# Altium footprint library PCB - LEADED - SOP - TI TSSOP-24 PW024A.PcbLib: 1 footprints
Each footprint in its own frame and in the unit in brackets; x right, y up, seen from the top. Pads: shape width x height; smd on the part's side, far side on the other; paste and mask are expansions set on the pad; w line width, h text height; cw(c..) or ccw(c..) is an arc to the next point about the centre after c.
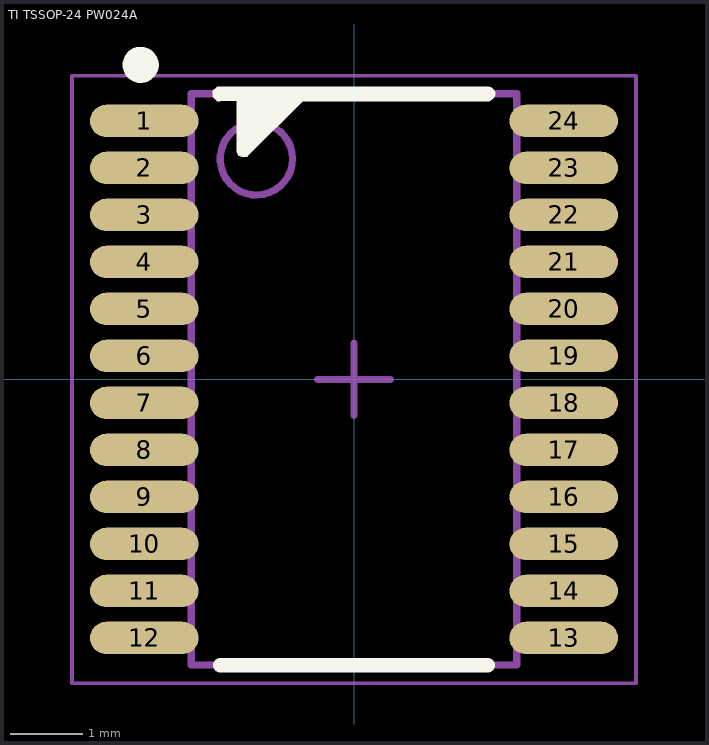
[diagram p0: the footprint, top view; thin cyan lines are the x and y axes]

## TI TSSOP-24 PW024A [mm] "TSOP, 24-Leads, Body 7.80x4.40mm, Pitch 0.65mm, IPC Medium Density"
height 1.2
pads (24):
  oval 1.5x0.45 smd: 1(-2.9,3.575) 2(-2.9,2.925) 3(-2.9,2.275) 4(-2.9,1.625) 5(-2.9,0.975) 6(-2.9,0.325) 7(-2.9,-0.325) 8(-2.9,-0.975) 9(-2.9,-1.625) 10(-2.9,-2.275) 11(-2.9,-2.925) 12(-2.9,-3.575) 13(2.9,-3.575) 14(2.9,-2.925) 15(2.9,-2.275) 16(2.9,-1.625) 17(2.9,-0.975) 18(2.9,-0.325) 19(2.9,0.325) 20(2.9,0.975) 21(2.9,1.625) 22(2.9,2.275) 23(2.9,2.925) 24(2.9,3.575)
Top Overlay:
  circle w0.25: c-2.95,4.35 r0.125
  region: -1.85,3.85 -1.624,3.85 -1.624,3.175 -1.624,3.145 -1.591,3.094 -1.534,3.071 -1.475,3.082 -1.453,3.104 -0.707,3.85 1.85,3.85 1.87,3.85 1.907,3.865 1.935,3.893 1.95,3.93 1.95,3.95 1.95,3.97 1.935,4.007 1.907,4.035 1.87,4.05 1.85,4.05 -1.85,4.05 -1.892,4.05 -1.95,3.992 -1.95,3.908 -1.892,3.85
  lines w0.2: -1.85,-3.95 1.85,-3.95 ; -1.85,3.95 1.85,3.95 ; -1.524,3.937 -1.524,3.175 -0.762,3.937
Mechanical 13:
  circle w0.1: c-1.35,3.05 r0.5
  lines w0.1: -2.25,-3.95 -2.25,3.95 2.25,3.95 2.25,-3.95 -2.25,-3.95
Mechanical 15:
  lines w0.05: -3.9,-4.2 -3.9,4.2 3.9,4.2 3.9,-4.2 -3.9,-4.2
Mechanical 2 (Mech9):
  lines w0.1: -0.5,0 0.5,0 ; 0,-0.5 0,0.5
3D body "TI - TSSOP-24 - PW0024A v1.STEP": height 1.2, standoff 0, extent -3.2,-3.9 3.2,3.9